# Altium schematic symbol library SCH_LIB.SchLib: 7 symbols
Pins are listed as number, name and electrical type; pins without a type are passive.

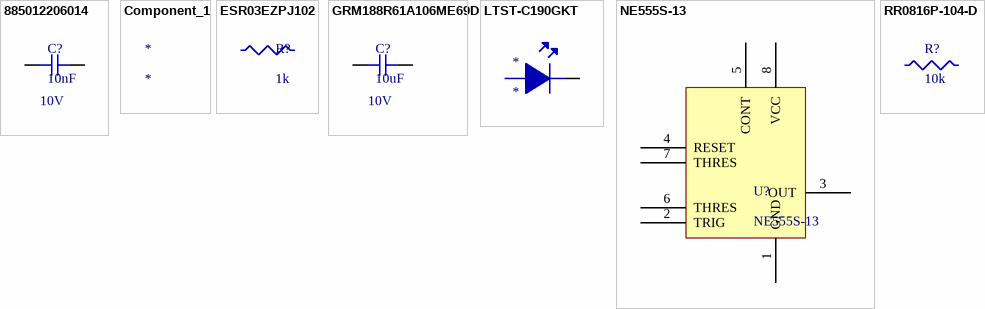
[diagram p0: symbols 885012206014 to RR0816P-104-D]

## 885012206014
designator C?, comment 10nF  Voltage Rating: 10V
Wurth Elektronik 0603 WCAP-CSGP 10nF Ceramic Multilayer Capacitor, 10 V dc, +125°C, X7R Dielectric, ±10%; Manufacturer: Wurth Electronics; Manufacturer Part Number: 885012206014; Supplier 1: Digi-Key; Stock 1: 26133; Pricing 1: 1=0.1, 10=0.021, 100=0.0192, 500=0.017 (USD); Mount: Surface Mount; Case/Package: 0603; Case Code (Metric): 1608; Case Code (Imperial): 0603; Min Operating Temperature: -55°C; Max Operating Temperature: 125°C; Packaging: Cut Tape; Capacitance: 10nF; Tolerance: 10%; Length: 0.063inch; Width: 0.031inch; Thickness: 0.034inch; Supplier Part Number 1: 732-7933-6-ND
footprint C0603 (Chip Capacitor, 2-Leads, Body 1.60x0.80mm, IPC Medium Density)
pins: 1, 2

## Component_1
designator *

## ESR03EZPJ102
designator R?, comment 1k
RES SMD 1K OHM 5% 1/4W 0603; Manufacturer: Rohm; Manufacturer Part Number: ESR03EZPJ102; Resistance: 1kR; Temperature Coefficient: 200ppm/°C; Max Power Dissipation: 250mW; Supplier 1: Digi-Key; Stock 1: 359314; Pricing 1: 1=0.1, 10=0.087, 100=0.0333, 1000=0.01464, 2500=0.01264 (USD); Case/Package: 0603; Case Code (Metric): 1608; Case Code (Imperial): 0603; Min Operating Temperature: -55°C; Max Operating Temperature: 155°C; Tolerance: 5%; Package Quantity: 1; Packaging: Tape and Reel; Composition: Thick Film; Number of Terminations: 2; Features: Automotive AEC-Q200; Length: 0.063inch; Height: 0.022inch; Width: 0.031inch; Lead Free: Lead Free; ComponentLink1URL: https://www.rohm.com/datasheet/ESR01MZPF/esr-e; ComponentLink1Description: https://www.rohm.com/datasheet/ESR01MZPF/esr-e; Supplier Part Number 1: RHM1.0KDCT-ND
footprint R0603 (Chip Resistor, 2-Leads, Body 1.60x0.80mm, IPC Medium Density)

## GRM188R61A106ME69D
designator C?, comment 10uF  Voltage Rating: 10V
Cap Ceramic 10uF 10V X5R 20% SMD 0603 85C Paper T/R; Manufacturer: Murata; Manufacturer Part Number: GRM188R61A106ME69D; Supplier 1: Digi-Key; Stock 1: 40000; Pricing 1: 1=0.21, 10=0.141, 100=0.0713, 500=0.04876, 1000=0.04313 (USD); Mount: Surface Mount; Case/Package: 0603; Weight: 0.000222oz; Case Code (Metric): 1608; Case Code (Imperial): 0603; Material: Ceramic; Min Operating Temperature: -55°C; Max Operating Temperature: 85°C; Packaging: Tape and Reel; Tolerance: 20%; Capacitance: 10uF; Dielectric: X5R; Termination: SMD/SMT; Voltage Rating (DC): 10V; Package Quantity: 4000; Length: 1.6mm; Height: 0.8mm; Width: 0.8mm; Thickness: 0.035inch; Depth: 0.8mm; REACH SVHC: Unknown; Lead Free: Lead Free; Supplier Part Number 1: 490-10475-1-ND
footprint C0603 (Chip Capacitor, 2-Leads, Body 1.60x0.80mm, IPC Medium Density)
pins: 1, 2

## LTST-C190GKT
designator *
LED GREEN CLEAR 0603 SMD; Manufacturer: Vishay Lite-On; Manufacturer Part Number: LTST-C190GKT; Lens Color: Clear,Colorless; Luminous Intensity: 6mcd; Forward Voltage: 2.1V; Viewing Angle: 130°; Lens Style: Clear,Colorless,Diffused,Rectangular; Forward Current: 30mA; Power Rating: 100mW; Dominant Wavelength: 569nm; Test Current: 10mA; Number of Elements: 1; Wavelength: 565nm; Voltage: 2V; Reverse Voltage: 5V; Current: 1A; Supplier 1: Digi-Key; Stock 1: 2267130; Pricing 1: 1=0.27, 10=0.196, 25=0.1448, 100=0.1034, 250=0.07032, 500=0.06204, 1000=0.0486 (USD); Mount: Surface Mount; Case/Package: 0603; Number of Pins: 2; Color: Green; Case Code (Metric): 1608; Case Code (Imperial): 0603; Min Operating Temperature: -55°C; Max Operating Temperature: 85°C; Package Quantity: 1; Packaging: Tape and Reel; Illumination Color: Green; Lens Transparency: Clear; Power Dissipation: 100mW; Number of LEDs: 1; Length: 1.6mm; Height: 0.8mm; Width: 0.8mm; Depth: 0.8mm; Radiation Hardening: No; Lead Free: Lead Free; ComponentLink1URL: http://uk.rs-online.com/webdocs/0dc0/0900766b80dc02a6.pdf; ComponentLink1Description: http://uk.rs-online.com/webdocs/0dc0/0900766b80dc02a6.pdf; ComponentLink2URL: https://media.digikey.com/pdf/Data%20Sheets/Lite-On%20PDFs/LTST-C190GKT.pdf; ComponentLink2Description: https://media.digikey.com/pdf/Data%20Sheets/Lite-On%20PDFs/LTST-C190GKT.pdf; ComponentLink3URL: http://www1.futureelectronics.com/doc/LITE%20ON/LITE-ON%20LTST-C190GKT.pdf; ComponentLink3Description: http://www1.futureelectronics.com/doc/LITE%20ON/LITE-ON%20LTST-C190GKT.pdf; Supplier Part Number 1: 160-1183-1-ND
footprint LED_0603
pins: 2

## NE555S-13
designator U?
555 Type, Timer/Oscillator (Single) IC 500kHz 8-SOIC (0.154", 3.90mm Width); Manufacturer: Diodes; Max Supply Voltage: 16V; Min Supply Voltage: 4.5V; Operating Supply Current: 13mA; High Level Output Current: -200mA; Low Level Output Current: 200mA; Quiescent Current: 15mA; Number of Timers/Counters: 1; Supplier 1: Digi-Key; Manufacturer Part Number: NE555S-13; Stock 1: 2607; Pricing 1: 1=0.37, 10=0.303, 100=0.206, 500=0.15452, 1000=0.11588 (USD); Mount: Surface Mount; Case/Package: SO; Number of Pins: 8; Weight: 0.01787oz; Contact Plating: Tin,Matte; Min Operating Temperature: 0°C; Max Operating Temperature: 70°C; Packaging: Tape and Reel; Package Quantity: 2500; Frequency: 500kHz; Length: 4.95mm; Height: 1.5mm; Width: 3.95mm; Radiation Hardening: No; Lead Free: Lead Free; REACH SVHC: No SVHC; ComponentLink1URL: https://datasheet.ciiva.com/1232/ne555-sa555-na555-1232519.pdf; ComponentLink1Description: https://datasheet.ciiva.com/1232/ne555-sa555-na555-1232519.pdf; ComponentLink2URL: https://datasheet.ciiva.com/1232/ne555-sa555-na555-1232520.pdf; ComponentLink2Description: https://datasheet.ciiva.com/1232/ne555-sa555-na555-1232520.pdf; ComponentLink3URL: https://datasheet.ciiva.com/1232/ne555-sa555-na555-1232521.pdf; ComponentLink3Description: https://datasheet.ciiva.com/1232/ne555-sa555-na555-1232521.pdf; Supplier Part Number 1: NE555S-13DIDKR-ND
footprint SOIC127P600X175-8N (SOIC, 8-Leads, Body 4.90x3.90mm, Pitch 1.27mm, IPC Medium Density)
pins: 1 GND, 2 TRIG, 3 OUT, 4 RESET, 5 CONT, 6 THRES, 7 THRES, 8 VCC

## RR0816P-104-D
designator R?, comment 10k
RES SMD 100K OHM 0.5% 1/16W 0816; Manufacturer: Susumu; Manufacturer Part Number: RR0816P-104-D; Power Rating: 63mW; Voltage Rating: 75V; Resistance: 100kR; Temperature Coefficient: 25ppm/°C; Supplier 1: Digi-Key; Stock 1: 249956; Pricing 1: 1=0.11, 10=0.098, 100=0.0376, 1000=0.01654, 2500=0.01428 (USD); Case/Package: 0603; Number of Pins: 2; Case Code (Imperial): 0603; Case Code (Metric): 1608; Min Operating Temperature: -55°C; Max Operating Temperature: 125°C; Tolerance: 0.5%; Packaging: Tape and Reel; Package Quantity: 1; Termination: SMD/SMT; Composition: Thin Film; Number of Terminations: 2; Max Power Dissipation: 63mW; Voltage Rating (DC): 75V; Working Voltage: 75V; Length: 1.6mm; Height: 0.4mm; Width: 0.8mm; Depth: 0.8mm; REACH SVHC: Unknown; Lead Free: Lead Free; ComponentLink1URL: http://www.farnell.com/datasheets/87330.pdf; ComponentLink1Description: http://www.farnell.com/datasheets/87330.pdf; ComponentLink2URL: http://www.susumu.co.jp/common/pdf/n_catalog_partition05_en.pdf; ComponentLink2Description: http://www.susumu.co.jp/common/pdf/n_catalog_partition05_en.pdf; ComponentLink3URL: http://documents.rs-components.com/techlib://itc_doclist_GB.htm?stockno=3915393; ComponentLink3Description: http://documents.rs-components.com/techlib://itc_doclist_GB.htm?stockno=3915393; Supplier Part Number 1: RR08P100KDDKR-ND